# Altium footprint library AMPHENOL_10118193-0001LF.PcbLib: 1 footprints
Each footprint in its own frame and in the unit in brackets; x right, y up, seen from the top. Pads: shape width x height; smd on the part's side, far side on the other; paste and mask are expansions set on the pad; w line width, h text height; cw(c..) or ccw(c..) is an arc to the next point about the centre after c.
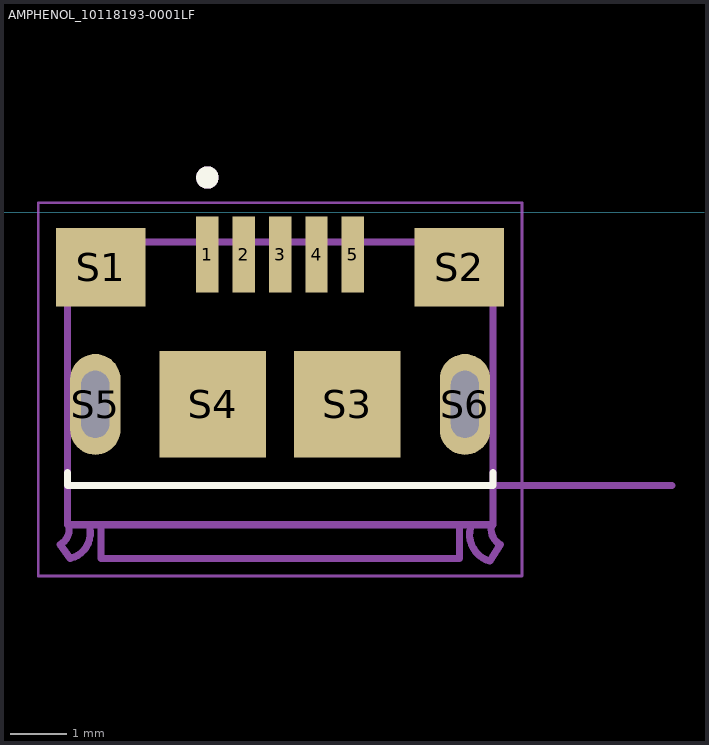
[diagram p0: the footprint, top view; thin cyan lines are the x and y axes]

## AMPHENOL_10118193-0001LF [mm]
height 2.55
pads (11):
  rect 0.4x1.35 smd: 1(46.325,-0.754) 2(46.975,-0.754) 3(47.625,-0.754) 4(48.275,-0.754) 5(48.925,-0.754)
  rect 1.6x1.4 smd: S1(44.425,-0.979) S2(50.825,-0.979)
  rect 1.9x1.9 smd: S3(48.825,-3.429) S4(46.425,-3.429)
  oval 0.9x1.8 hole 0.5 slot 1.2 at 90 deg: S5(44.325,-3.429) S6(50.925,-3.429)
Top Overlay:
  circle w0.2: c46.325,0.621 r0.1
  lines w0.127: 43.825,-4.649 43.825,-4.879 51.425,-4.879 51.425,-4.649
Mechanical 13:
  circle w0.2: c46.325,0.621 r0.1
  lines w0.127: 43.695,-5.929 43.875,-6.179 ; 43.695,-5.929 ccw(c43.56,-5.664) 43.825,-5.529 ; 43.825,-4.879 51.425,-4.879 ; 43.879,-6.178 ccw(c43.775,-5.729) 44.224,-5.625 ; 44.425,-5.629 44.425,-6.179 50.825,-6.179 50.825,-5.629 ; 51.026,-5.627 ccw(c51.5,-5.754) 51.373,-6.228 ; 51.375,-6.229 51.555,-5.929 ; 51.425,-5.529 ccw(c51.69,-5.664) 51.555,-5.929 ; 54.625,-4.879 51.425,-4.879 ; 43.825,-5.529 43.825,-0.529 51.425,-0.529 51.425,-4.879 ; 43.825,-5.529 43.825,-5.579 51.425,-5.579 51.425,-4.879
  text "PCB END" at 55.372,-5.334 h0.41
Mechanical 15:
  lines w0.05: 43.305,-6.495 51.945,-6.495 51.945,0.171 43.305,0.171 43.305,-6.495
3D body "step_temp.STEP": height 3.18, standoff -0.43, extent 94.072,-5.911 101.928,-0.25
3D body "10118193-0001LF--3DModel-STEP-56544.STEP": height 2.76, standoff -2.95, extent 43.568,-2.977 51.428,0.623